# Altium integrated library TI Data Converters Analog to Digital Converter.IntLib: 2197 symbols (part 45 of 168)
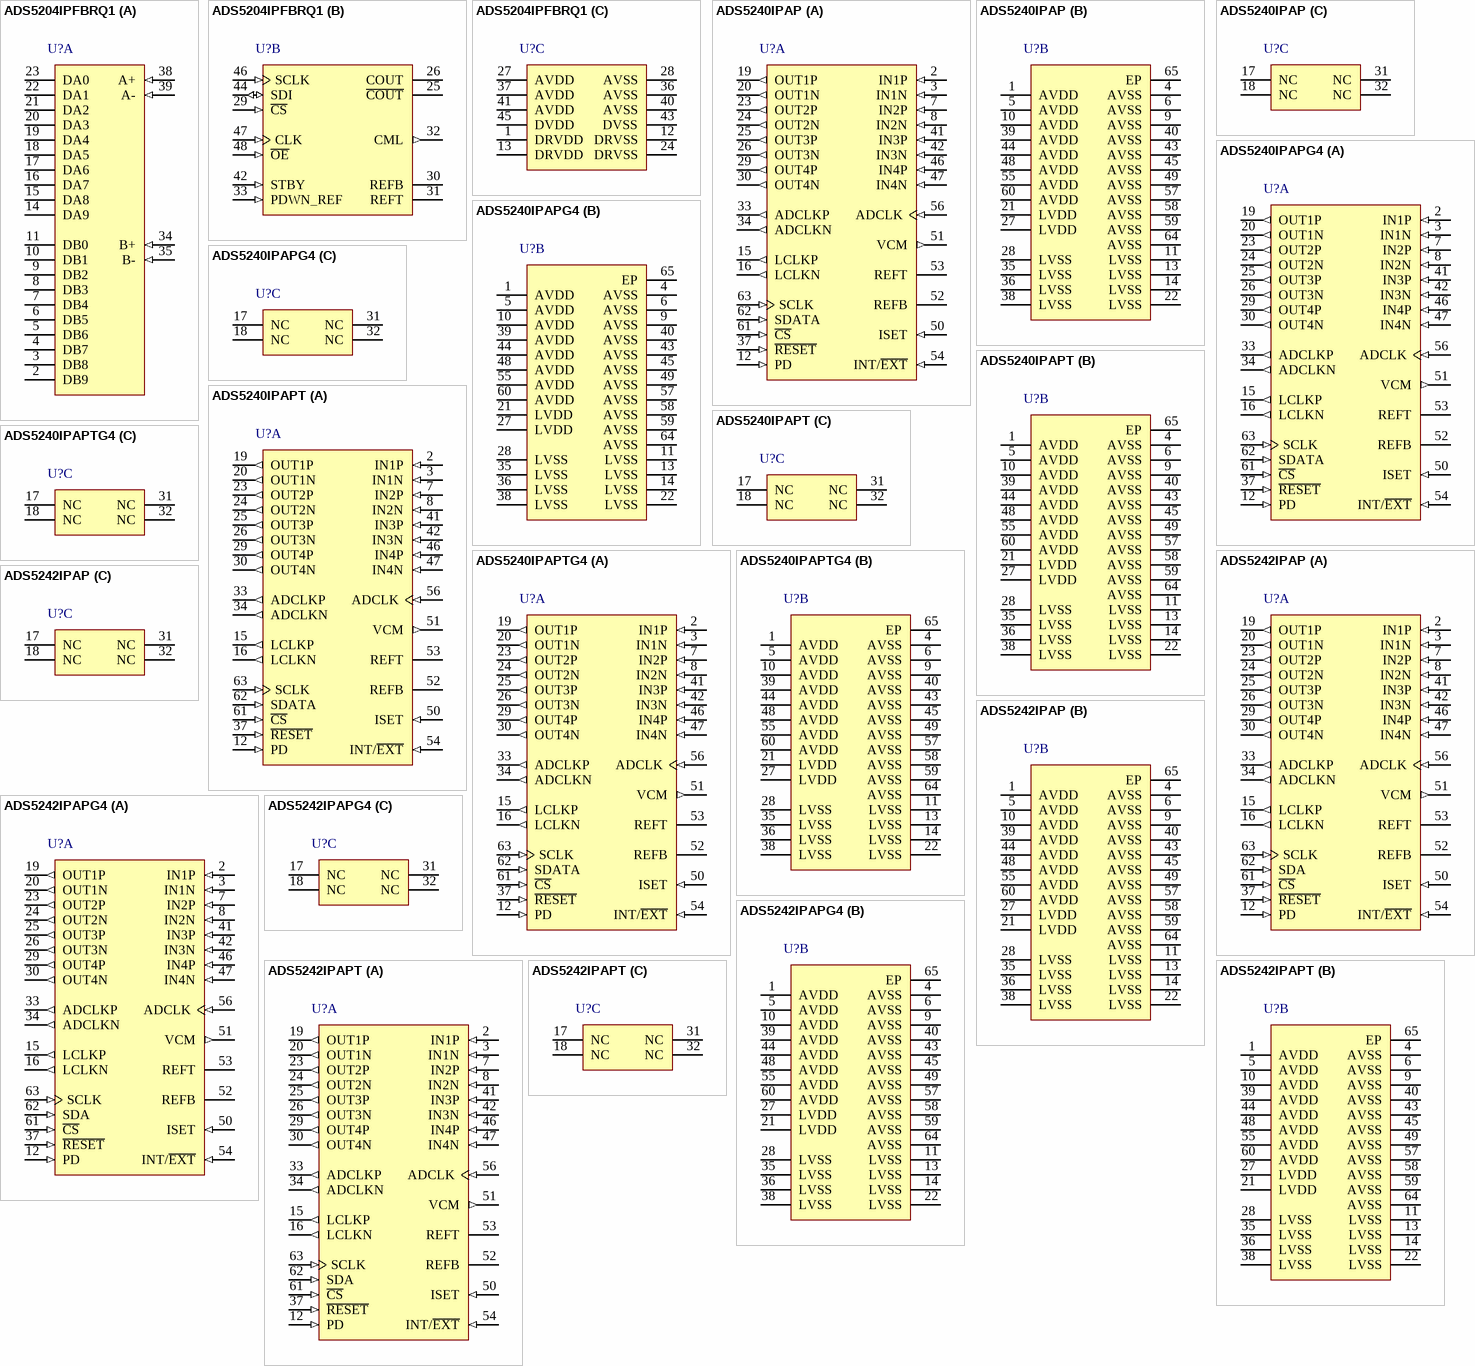
[diagram p170: symbols ADS5204IPFBRQ1 to ADS5242IPAPT]

## ADS5242IPAP
designator U?
4-Channel, 12-Bit, 65 MSPS ADC with Serial LVDS Interface, -40 to 85 degC, 64-pin QFP (PAP64), Green (RoHS & no Sb/Br); Manufacturer: Texas Instruments; PartNumber: ADS5242IPAP; # Input Channels: 4; Analog Voltage AV/DD(Max)(V): 3.6; Analog Voltage AV/DD(Min)(V): 3; Architecture: Pipeline; ENOB(Bits): 11.5; INL(Max)(+/-LSB): 2.5; Interface: Parallel LVDS; Resolution(Bits): 12; Sample Rate (max)(SPS): 65M; SFDR(dB): 88; SINAD(dB): 70.9; SNR(dB): 71.1; SubFamily: High Speed ADC (>10MSPS); DatasheetVersion: SBAS330C; PackageVersion: 4147702/C, 08/2003; PackageReference: PAP64-5900X5900TP; PackageDescription: 64-Pin PowerPAD(TM) Plastic Quad Flatpack, Body 10 x 10 mm, Pitch 0.5 mm; Supplier 1: Digi-Key; Supplier Part Number 1: ADS8322Y/2KG4-ND; Supplier 2: Mouser; Supplier Part Number 2: 595-ADS8322Y/2KG4; Digital Supply(Max)(V): 3.6; Digital Supply(Min)(V): 3; Eco-Plan: Green (RoHS & no Sb/Br); Mounting Technology: Surface Mount; Code_JEDEC: MS-026; ComponentLink1Description: Manufacturer URL; ComponentLink1URL: http://www.ti.com/; ComponentLink2Description: Datasheet; ComponentLink2URL: http://www.ti.com/general/docs/lit/getliterature.tsp?genericPartNumber=ADS5242&fileType=pdf; ComponentLink3Description: Package Specification; ComponentLink3URL: http://www.ti.com/lit/ml/mpqf071b/mpqf071b.pdf
footprint TI-PAP64-5900X5900TP_N (QFP, 64-Leads, Body 10x10mm, Pitch 0.5mm, Thermal Pad 6.5x6.5mm, IPC Medium Density)
footprint TI-PAP64-5900X5900TP_L (QFP, 64-Leads, Body 10x10mm, Pitch 0.5mm, Thermal Pad 6.5x6.5mm, IPC High Density)
footprint TI-PAP64-5900X5900TP_M (QFP, 64-Leads, Body 10x10mm, Pitch 0.5mm, Thermal Pad 6.5x6.5mm, IPC Low Density)
part A pins: 2 IN1P (in) "Channel 1 Differential Analog Input High", 3 IN1N (in) "Channel 1 Differential Analog Input Low", 7 IN2P (in) "Channel 2 Differential Analog Input High", 8 IN2N (in) "Channel 2 Differential Analog Input Low", 12 PD (in) "Power-Down; 0 = Normal, 1 = Power-Down. Weak pull-down to ground.", 15 LCLKP (out) "Positive LVDS Clock", 16 LCLKN (out) "Negative LVDS Clock", 19 OUT1P (out) "Channel 1 Positive LVDS Data Output", 20 OUT1N (out) "Channel 1 Negative LVDS Data Output", 23 OUT2P (out) "Channel 2 Positive LVDS Data Output", 24 OUT2N (out) "Channel 2 Negative LVDS Data Output", 25 OUT3P (out) "Channel 3 Positive LVDS Data Output", 26 OUT3N (out) "Channel 3 Negative LVDS Data Output", 29 OUT4P (out) "Channel 4 Positive LVDS Data Output", 30 OUT4N (out) "Channel 4 Negative LVDS Data Output", 33 ADCLKP (out) "Positive LVDS ADC Clock Output", 34 ADCLKN (out) "Negative LVDS ADC Clock Output", 37 ~{RESET} (in) "Reset to Default; 0 = Reset, 1 = Normal. Weak pull-down to ground.", 41 IN3P (in) "Channel 3 Differential Analog Input High", 42 IN3N (in) "Channel 3 Differential Analog Input Low", 46 IN4P (in) "Channel 4 Differential Analog Input High", 47 IN4N (in) "Channel 4 Differential Analog Input Low", 50 ISET (in) "Bias Current Setting Resistor of 56.2kOhm to Ground", 51 VCM (out) "Common-Mode Output Voltage", 52 REFB "Reference Bottom Voltage (2Ohm resistor in series with a capacitor >= 0.1uF to ground)", 53 REFT "Reference Top Voltage (2Ohm resistor in series with a capacitor >= 0.1uF to ground)", 54 INT/~{EXT} (in) "Internal/External Reference Select; 0 = External, 1 = Internal. Weak pull-up to supply.", 56 ADCLK (in) "Data Converter Clock Input", 61 ~{CS} (in) "Chip Select; 0 = Select, 1 = No Select", 62 SDA (in) "Serial Data Input", 63 SCLK (in) "Serial Data Clock"
part B pins: 1 AVDD (power) "Analog Power Supply", 4 AVSS (power) "Analog Ground", 5 AVDD (power) "Analog Power Supply", 6 AVSS (power) "Analog Ground", 9 AVSS (power) "Analog Ground", 10 AVDD (power) "Analog Power Supply", 11 LVSS (power) "LVDS Ground", 13 LVSS (power) "LVDS Ground", 14 LVSS (power) "LVDS Ground", 21 LVDD (power) "LVDS Power Supply", 22 LVSS (power) "LVDS Ground", 27 LVDD (power) "LVDS Power Supply", 28 LVSS (power) "LVDS Ground", 35 LVSS (power) "LVDS Ground", 36 LVSS (power) "LVDS Ground", 38 LVSS (power) "LVDS Ground", 39 AVDD (power) "Analog Power Supply", 40 AVSS (power) "Analog Ground", 43 AVSS (power) "Analog Ground", 44 AVDD (power) "Analog Power Supply", 45 AVSS (power) "Analog Ground", 48 AVDD (power) "Analog Power Supply", 49 AVSS (power) "Analog Ground", 55 AVDD (power) "Analog Power Supply", 57 AVSS (power) "Analog Ground", 58 AVSS (power) "Analog Ground", 59 AVSS (power) "Analog Ground", 60 AVDD (power) "Analog Power Supply", 64 AVSS (power) "Analog Ground", 65 EP
part C pins: 17 NC "No Connection", 18 NC "No Connection", 31 NC "No Connection", 32 NC "No Connection"

## ADS5242IPAPG4
designator U?
4-Channel, 12-Bit, 65 MSPS ADC with Serial LVDS Interface, -40 to 85 degC, 64-pin QFP (PAP64), Green (RoHS & no Sb/Br); Manufacturer: Texas Instruments; PartNumber: ADS5242IPAPG4; # Input Channels: 4; Analog Voltage AV/DD(Max)(V): 3.6; Analog Voltage AV/DD(Min)(V): 3; Architecture: Pipeline; ENOB(Bits): 11.5; INL(Max)(+/-LSB): 2.5; Interface: Parallel LVDS; Resolution(Bits): 12; Sample Rate (max)(SPS): 65M; SFDR(dB): 88; SINAD(dB): 70.9; SNR(dB): 71.1; SubFamily: High Speed ADC (>10MSPS); DatasheetVersion: SBAS330C; PackageVersion: 4147702/C, 08/2003; PackageReference: PAP64-5900X5900TP; PackageDescription: 64-Pin PowerPAD(TM) Plastic Quad Flatpack, Body 10 x 10 mm, Pitch 0.5 mm; Supplier 1: Digi-Key; Supplier Part Number 1: 296-13772-2-ND; Supplier 2: Digi-Key; Supplier Part Number 2: 296-13772-1-ND; Supplier 3: Digi-Key; Supplier Part Number 3: 296-13772-6-ND; Supplier 4: Mouser; Supplier Part Number 4: 595-ADS8322YB/250; Digital Supply(Max)(V): 3.6; Digital Supply(Min)(V): 3; Eco-Plan: Green (RoHS & no Sb/Br); Mounting Technology: Surface Mount; Code_JEDEC: MS-026; ComponentLink1Description: Manufacturer URL; ComponentLink1URL: http://www.ti.com/; ComponentLink2Description: Datasheet; ComponentLink2URL: http://www.ti.com/general/docs/lit/getliterature.tsp?genericPartNumber=ADS5242&fileType=pdf; ComponentLink3Description: Package Specification; ComponentLink3URL: http://www.ti.com/lit/ml/mpqf071b/mpqf071b.pdf
footprint TI-PAP64-5900X5900TP_N (QFP, 64-Leads, Body 10x10mm, Pitch 0.5mm, Thermal Pad 6.5x6.5mm, IPC Medium Density)
footprint TI-PAP64-5900X5900TP_L (QFP, 64-Leads, Body 10x10mm, Pitch 0.5mm, Thermal Pad 6.5x6.5mm, IPC High Density)
footprint TI-PAP64-5900X5900TP_M (QFP, 64-Leads, Body 10x10mm, Pitch 0.5mm, Thermal Pad 6.5x6.5mm, IPC Low Density)
part A pins: 2 IN1P (in) "Channel 1 Differential Analog Input High", 3 IN1N (in) "Channel 1 Differential Analog Input Low", 7 IN2P (in) "Channel 2 Differential Analog Input High", 8 IN2N (in) "Channel 2 Differential Analog Input Low", 12 PD (in) "Power-Down; 0 = Normal, 1 = Power-Down. Weak pull-down to ground.", 15 LCLKP (out) "Positive LVDS Clock", 16 LCLKN (out) "Negative LVDS Clock", 19 OUT1P (out) "Channel 1 Positive LVDS Data Output", 20 OUT1N (out) "Channel 1 Negative LVDS Data Output", 23 OUT2P (out) "Channel 2 Positive LVDS Data Output", 24 OUT2N (out) "Channel 2 Negative LVDS Data Output", 25 OUT3P (out) "Channel 3 Positive LVDS Data Output", 26 OUT3N (out) "Channel 3 Negative LVDS Data Output", 29 OUT4P (out) "Channel 4 Positive LVDS Data Output", 30 OUT4N (out) "Channel 4 Negative LVDS Data Output", 33 ADCLKP (out) "Positive LVDS ADC Clock Output", 34 ADCLKN (out) "Negative LVDS ADC Clock Output", 37 ~{RESET} (in) "Reset to Default; 0 = Reset, 1 = Normal. Weak pull-down to ground.", 41 IN3P (in) "Channel 3 Differential Analog Input High", 42 IN3N (in) "Channel 3 Differential Analog Input Low", 46 IN4P (in) "Channel 4 Differential Analog Input High", 47 IN4N (in) "Channel 4 Differential Analog Input Low", 50 ISET (in) "Bias Current Setting Resistor of 56.2kOhm to Ground", 51 VCM (out) "Common-Mode Output Voltage", 52 REFB "Reference Bottom Voltage (2Ohm resistor in series with a capacitor >= 0.1uF to ground)", 53 REFT "Reference Top Voltage (2Ohm resistor in series with a capacitor >= 0.1uF to ground)", 54 INT/~{EXT} (in) "Internal/External Reference Select; 0 = External, 1 = Internal. Weak pull-up to supply.", 56 ADCLK (in) "Data Converter Clock Input", 61 ~{CS} (in) "Chip Select; 0 = Select, 1 = No Select", 62 SDA (in) "Serial Data Input", 63 SCLK (in) "Serial Data Clock"
part B pins: 1 AVDD (power) "Analog Power Supply", 4 AVSS (power) "Analog Ground", 5 AVDD (power) "Analog Power Supply", 6 AVSS (power) "Analog Ground", 9 AVSS (power) "Analog Ground", 10 AVDD (power) "Analog Power Supply", 11 LVSS (power) "LVDS Ground", 13 LVSS (power) "LVDS Ground", 14 LVSS (power) "LVDS Ground", 21 LVDD (power) "LVDS Power Supply", 22 LVSS (power) "LVDS Ground", 27 LVDD (power) "LVDS Power Supply", 28 LVSS (power) "LVDS Ground", 35 LVSS (power) "LVDS Ground", 36 LVSS (power) "LVDS Ground", 38 LVSS (power) "LVDS Ground", 39 AVDD (power) "Analog Power Supply", 40 AVSS (power) "Analog Ground", 43 AVSS (power) "Analog Ground", 44 AVDD (power) "Analog Power Supply", 45 AVSS (power) "Analog Ground", 48 AVDD (power) "Analog Power Supply", 49 AVSS (power) "Analog Ground", 55 AVDD (power) "Analog Power Supply", 57 AVSS (power) "Analog Ground", 58 AVSS (power) "Analog Ground", 59 AVSS (power) "Analog Ground", 60 AVDD (power) "Analog Power Supply", 64 AVSS (power) "Analog Ground", 65 EP
part C pins: 17 NC "No Connection", 18 NC "No Connection", 31 NC "No Connection", 32 NC "No Connection"

## ADS5242IPAPT
designator U?
4-Channel, 12-Bit, 65 MSPS ADC with Serial LVDS Interface, -40 to 85 degC, 64-pin QFP (PAP64), Green (RoHS & no Sb/Br); Manufacturer: Texas Instruments; PartNumber: ADS5242IPAPT; # Input Channels: 4; Analog Voltage AV/DD(Max)(V): 3.6; Analog Voltage AV/DD(Min)(V): 3; Architecture: Pipeline; ENOB(Bits): 11.5; INL(Max)(+/-LSB): 2.5; Interface: Parallel LVDS; Resolution(Bits): 12; Sample Rate (max)(SPS): 65M; SFDR(dB): 88; SINAD(dB): 70.9; SNR(dB): 71.1; SubFamily: High Speed ADC (>10MSPS); DatasheetVersion: SBAS330C; PackageVersion: 4147702/C, 08/2003; PackageReference: PAP64-5900X5900TP; PackageDescription: 64-Pin PowerPAD(TM) Plastic Quad Flatpack, Body 10 x 10 mm, Pitch 0.5 mm; Supplier 1: Digi-Key; Supplier Part Number 1: ADS8322YB/250G4-ND; Supplier 2: Mouser; Supplier Part Number 2: 595-ADS8322YB/250G4; Digital Supply(Max)(V): 3.6; Digital Supply(Min)(V): 3; Eco-Plan: Green (RoHS & no Sb/Br); Mounting Technology: Surface Mount; Code_JEDEC: MS-026; ComponentLink1Description: Manufacturer URL; ComponentLink1URL: http://www.ti.com/; ComponentLink2Description: Datasheet; ComponentLink2URL: http://www.ti.com/general/docs/lit/getliterature.tsp?genericPartNumber=ADS5242&fileType=pdf; ComponentLink3Description: Package Specification; ComponentLink3URL: http://www.ti.com/lit/ml/mpqf071b/mpqf071b.pdf
footprint TI-PAP64-5900X5900TP_N (QFP, 64-Leads, Body 10x10mm, Pitch 0.5mm, Thermal Pad 6.5x6.5mm, IPC Medium Density)
footprint TI-PAP64-5900X5900TP_L (QFP, 64-Leads, Body 10x10mm, Pitch 0.5mm, Thermal Pad 6.5x6.5mm, IPC High Density)
footprint TI-PAP64-5900X5900TP_M (QFP, 64-Leads, Body 10x10mm, Pitch 0.5mm, Thermal Pad 6.5x6.5mm, IPC Low Density)
part A pins: 2 IN1P (in) "Channel 1 Differential Analog Input High", 3 IN1N (in) "Channel 1 Differential Analog Input Low", 7 IN2P (in) "Channel 2 Differential Analog Input High", 8 IN2N (in) "Channel 2 Differential Analog Input Low", 12 PD (in) "Power-Down; 0 = Normal, 1 = Power-Down. Weak pull-down to ground.", 15 LCLKP (out) "Positive LVDS Clock", 16 LCLKN (out) "Negative LVDS Clock", 19 OUT1P (out) "Channel 1 Positive LVDS Data Output", 20 OUT1N (out) "Channel 1 Negative LVDS Data Output", 23 OUT2P (out) "Channel 2 Positive LVDS Data Output", 24 OUT2N (out) "Channel 2 Negative LVDS Data Output", 25 OUT3P (out) "Channel 3 Positive LVDS Data Output", 26 OUT3N (out) "Channel 3 Negative LVDS Data Output", 29 OUT4P (out) "Channel 4 Positive LVDS Data Output", 30 OUT4N (out) "Channel 4 Negative LVDS Data Output", 33 ADCLKP (out) "Positive LVDS ADC Clock Output", 34 ADCLKN (out) "Negative LVDS ADC Clock Output", 37 ~{RESET} (in) "Reset to Default; 0 = Reset, 1 = Normal. Weak pull-down to ground.", 41 IN3P (in) "Channel 3 Differential Analog Input High", 42 IN3N (in) "Channel 3 Differential Analog Input Low", 46 IN4P (in) "Channel 4 Differential Analog Input High", 47 IN4N (in) "Channel 4 Differential Analog Input Low", 50 ISET (in) "Bias Current Setting Resistor of 56.2kOhm to Ground", 51 VCM (out) "Common-Mode Output Voltage", 52 REFB "Reference Bottom Voltage (2Ohm resistor in series with a capacitor >= 0.1uF to ground)", 53 REFT "Reference Top Voltage (2Ohm resistor in series with a capacitor >= 0.1uF to ground)", 54 INT/~{EXT} (in) "Internal/External Reference Select; 0 = External, 1 = Internal. Weak pull-up to supply.", 56 ADCLK (in) "Data Converter Clock Input", 61 ~{CS} (in) "Chip Select; 0 = Select, 1 = No Select", 62 SDA (in) "Serial Data Input", 63 SCLK (in) "Serial Data Clock"
part B pins: 1 AVDD (power) "Analog Power Supply", 4 AVSS (power) "Analog Ground", 5 AVDD (power) "Analog Power Supply", 6 AVSS (power) "Analog Ground", 9 AVSS (power) "Analog Ground", 10 AVDD (power) "Analog Power Supply", 11 LVSS (power) "LVDS Ground", 13 LVSS (power) "LVDS Ground", 14 LVSS (power) "LVDS Ground", 21 LVDD (power) "LVDS Power Supply", 22 LVSS (power) "LVDS Ground", 27 LVDD (power) "LVDS Power Supply", 28 LVSS (power) "LVDS Ground", 35 LVSS (power) "LVDS Ground", 36 LVSS (power) "LVDS Ground", 38 LVSS (power) "LVDS Ground", 39 AVDD (power) "Analog Power Supply", 40 AVSS (power) "Analog Ground", 43 AVSS (power) "Analog Ground", 44 AVDD (power) "Analog Power Supply", 45 AVSS (power) "Analog Ground", 48 AVDD (power) "Analog Power Supply", 49 AVSS (power) "Analog Ground", 55 AVDD (power) "Analog Power Supply", 57 AVSS (power) "Analog Ground", 58 AVSS (power) "Analog Ground", 59 AVSS (power) "Analog Ground", 60 AVDD (power) "Analog Power Supply", 64 AVSS (power) "Analog Ground", 65 EP
part C pins: 17 NC "No Connection", 18 NC "No Connection", 31 NC "No Connection", 32 NC "No Connection"

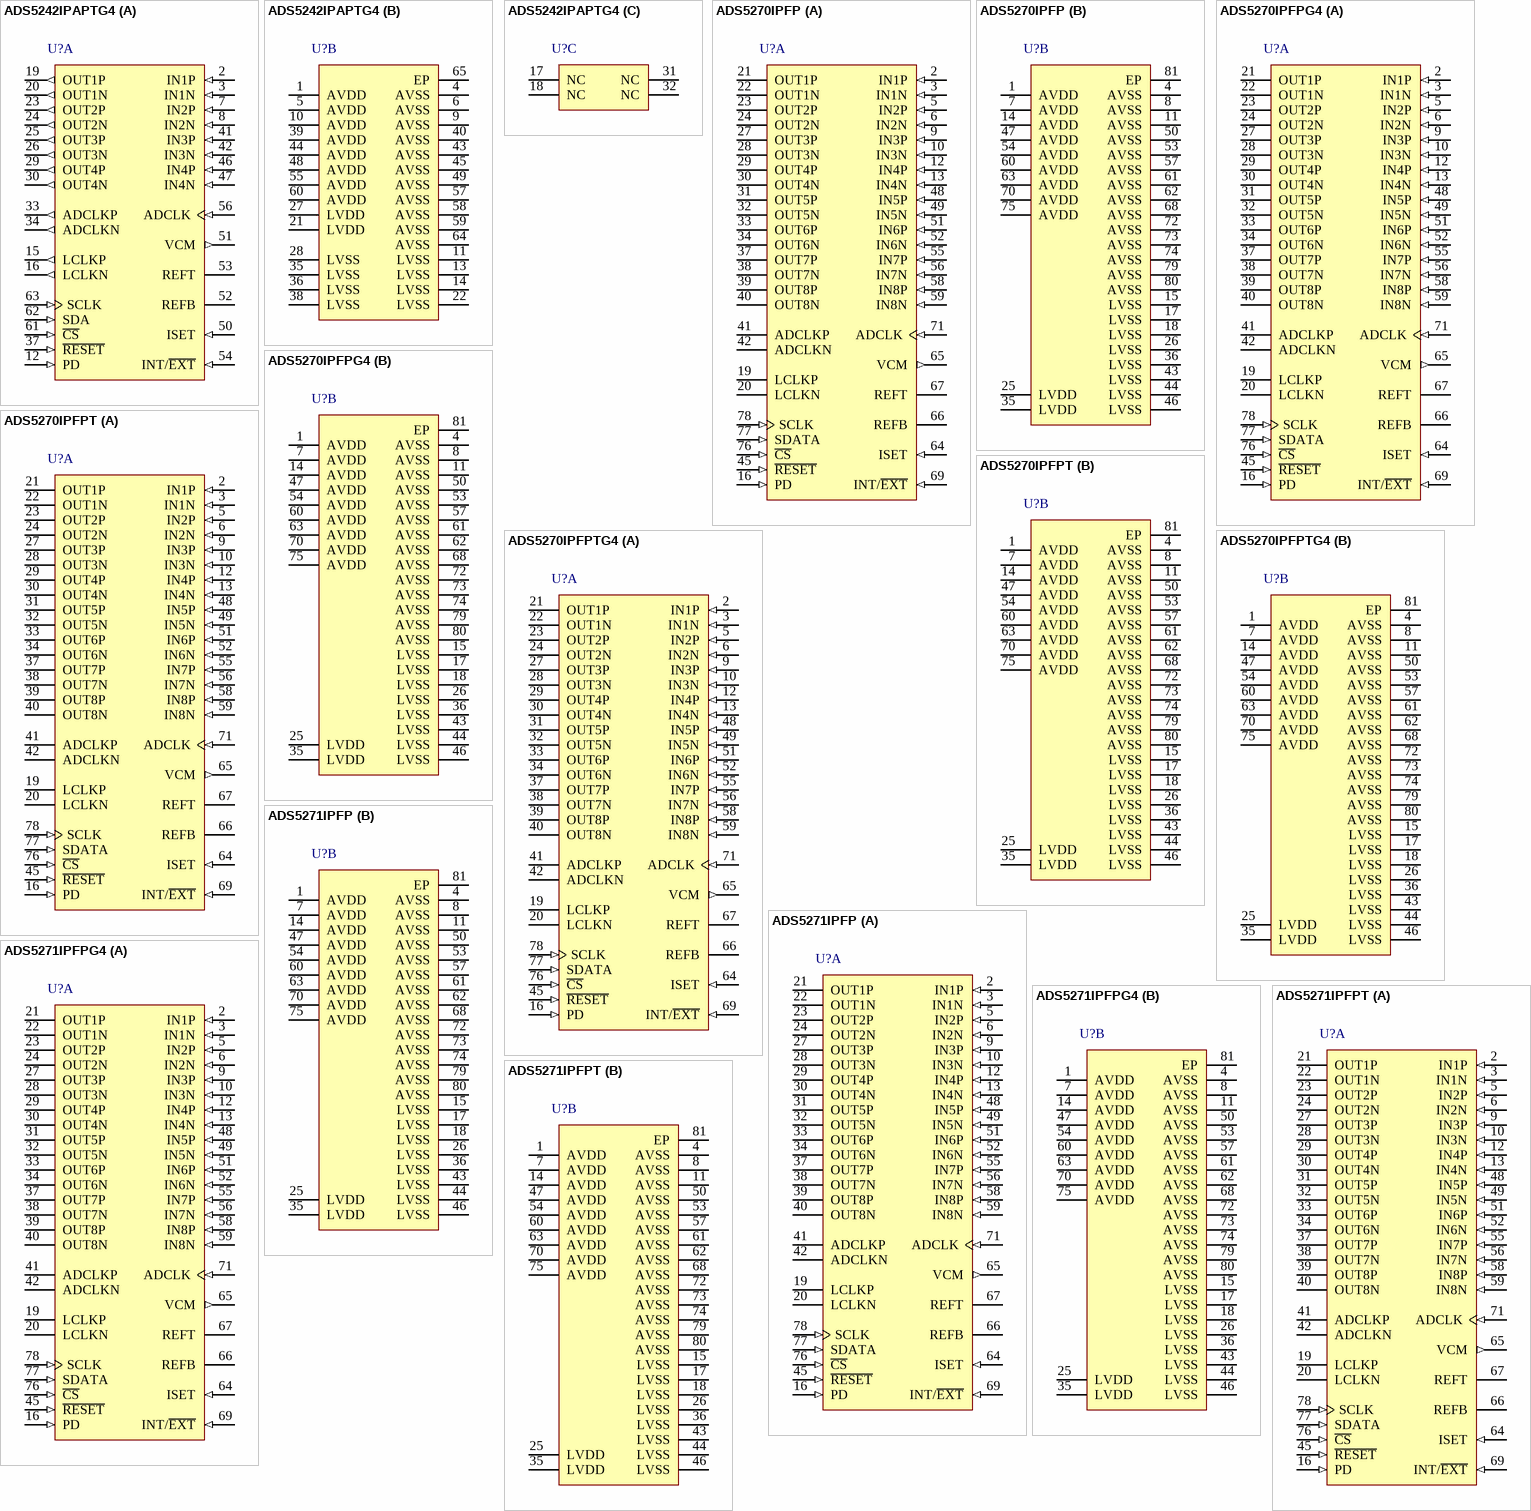
[diagram p41: symbols ADS5242IPAPTG4 to ADS5271IPFPT]

## ADS5242IPAPTG4
designator U?
4-Channel, 12-Bit, 65 MSPS ADC with Serial LVDS Interface, -40 to 85 degC, 64-pin QFP (PAP64), Green (RoHS & no Sb/Br); Manufacturer: Texas Instruments; PartNumber: ADS5242IPAPTG4; # Input Channels: 4; Analog Voltage AV/DD(Max)(V): 3.6; Analog Voltage AV/DD(Min)(V): 3; Architecture: Pipeline; ENOB(Bits): 11.5; INL(Max)(+/-LSB): 2.5; Interface: Parallel LVDS; Resolution(Bits): 12; Sample Rate (max)(SPS): 65M; SFDR(dB): 88; SINAD(dB): 70.9; SNR(dB): 71.1; SubFamily: High Speed ADC (>10MSPS); DatasheetVersion: SBAS330C; PackageVersion: 4147702/C, 08/2003; PackageReference: PAP64-5900X5900TP; PackageDescription: 64-Pin PowerPAD(TM) Plastic Quad Flatpack, Body 10 x 10 mm, Pitch 0.5 mm; Supplier 1: Digi-Key; Supplier Part Number 1: THS1207CDA-ND; Supplier 2: Mouser; Supplier Part Number 2: 595-THS1207CDA; Digital Supply(Max)(V): 3.6; Digital Supply(Min)(V): 3; Eco-Plan: Green (RoHS & no Sb/Br); Mounting Technology: Surface Mount; Code_JEDEC: MS-026; ComponentLink1Description: Manufacturer URL; ComponentLink1URL: http://www.ti.com/; ComponentLink2Description: Datasheet; ComponentLink2URL: http://www.ti.com/general/docs/lit/getliterature.tsp?genericPartNumber=ADS5242&fileType=pdf; ComponentLink3Description: Package Specification; ComponentLink3URL: http://www.ti.com/lit/ml/mpqf071b/mpqf071b.pdf
footprint TI-PAP64-5900X5900TP_N (QFP, 64-Leads, Body 10x10mm, Pitch 0.5mm, Thermal Pad 6.5x6.5mm, IPC Medium Density)
footprint TI-PAP64-5900X5900TP_L (QFP, 64-Leads, Body 10x10mm, Pitch 0.5mm, Thermal Pad 6.5x6.5mm, IPC High Density)
footprint TI-PAP64-5900X5900TP_M (QFP, 64-Leads, Body 10x10mm, Pitch 0.5mm, Thermal Pad 6.5x6.5mm, IPC Low Density)
part A pins: 2 IN1P (in) "Channel 1 Differential Analog Input High", 3 IN1N (in) "Channel 1 Differential Analog Input Low", 7 IN2P (in) "Channel 2 Differential Analog Input High", 8 IN2N (in) "Channel 2 Differential Analog Input Low", 12 PD (in) "Power-Down; 0 = Normal, 1 = Power-Down. Weak pull-down to ground.", 15 LCLKP (out) "Positive LVDS Clock", 16 LCLKN (out) "Negative LVDS Clock", 19 OUT1P (out) "Channel 1 Positive LVDS Data Output", 20 OUT1N (out) "Channel 1 Negative LVDS Data Output", 23 OUT2P (out) "Channel 2 Positive LVDS Data Output", 24 OUT2N (out) "Channel 2 Negative LVDS Data Output", 25 OUT3P (out) "Channel 3 Positive LVDS Data Output", 26 OUT3N (out) "Channel 3 Negative LVDS Data Output", 29 OUT4P (out) "Channel 4 Positive LVDS Data Output", 30 OUT4N (out) "Channel 4 Negative LVDS Data Output", 33 ADCLKP (out) "Positive LVDS ADC Clock Output", 34 ADCLKN (out) "Negative LVDS ADC Clock Output", 37 ~{RESET} (in) "Reset to Default; 0 = Reset, 1 = Normal. Weak pull-down to ground.", 41 IN3P (in) "Channel 3 Differential Analog Input High", 42 IN3N (in) "Channel 3 Differential Analog Input Low", 46 IN4P (in) "Channel 4 Differential Analog Input High", 47 IN4N (in) "Channel 4 Differential Analog Input Low", 50 ISET (in) "Bias Current Setting Resistor of 56.2kOhm to Ground", 51 VCM (out) "Common-Mode Output Voltage", 52 REFB "Reference Bottom Voltage (2Ohm resistor in series with a capacitor >= 0.1uF to ground)", 53 REFT "Reference Top Voltage (2Ohm resistor in series with a capacitor >= 0.1uF to ground)", 54 INT/~{EXT} (in) "Internal/External Reference Select; 0 = External, 1 = Internal. Weak pull-up to supply.", 56 ADCLK (in) "Data Converter Clock Input", 61 ~{CS} (in) "Chip Select; 0 = Select, 1 = No Select", 62 SDA (in) "Serial Data Input", 63 SCLK (in) "Serial Data Clock"
part B pins: 1 AVDD (power) "Analog Power Supply", 4 AVSS (power) "Analog Ground", 5 AVDD (power) "Analog Power Supply", 6 AVSS (power) "Analog Ground", 9 AVSS (power) "Analog Ground", 10 AVDD (power) "Analog Power Supply", 11 LVSS (power) "LVDS Ground", 13 LVSS (power) "LVDS Ground", 14 LVSS (power) "LVDS Ground", 21 LVDD (power) "LVDS Power Supply", 22 LVSS (power) "LVDS Ground", 27 LVDD (power) "LVDS Power Supply", 28 LVSS (power) "LVDS Ground", 35 LVSS (power) "LVDS Ground", 36 LVSS (power) "LVDS Ground", 38 LVSS (power) "LVDS Ground", 39 AVDD (power) "Analog Power Supply", 40 AVSS (power) "Analog Ground", 43 AVSS (power) "Analog Ground", 44 AVDD (power) "Analog Power Supply", 45 AVSS (power) "Analog Ground", 48 AVDD (power) "Analog Power Supply", 49 AVSS (power) "Analog Ground", 55 AVDD (power) "Analog Power Supply", 57 AVSS (power) "Analog Ground", 58 AVSS (power) "Analog Ground", 59 AVSS (power) "Analog Ground", 60 AVDD (power) "Analog Power Supply", 64 AVSS (power) "Analog Ground", 65 EP
part C pins: 17 NC "No Connection", 18 NC "No Connection", 31 NC "No Connection", 32 NC "No Connection"

## ADS5270IPFP
designator U?
8-Channel ADC, -40 to 85 degC, 80-pin QFP (PFP80), Green (RoHS & no Sb/Br); Manufacturer: Texas Instruments; PartNumber: ADS5270IPFP; # Input Channels: 8; Analog Voltage AV/DD(Max)(V): 3.6; Analog Voltage AV/DD(Min)(V): 3; Architecture: Pipeline; ENOB(Bits): 11.3; INL(Max)(+/-LSB): 2; Interface: Parallel LVDS; Resolution(Bits): 12; Sample Rate (max)(SPS): 40M; SFDR(dB): 89; SINAD(dB): 70; SNR(dB): 70.5; SubFamily: High Speed ADC (>10MSPS); DatasheetVersion: SBAS293F; PackageVersion: 4146925/C, 07/2011; PackageReference: PFP80-5445X5445TP; PackageDescription: 80-Pin PowerPAD(TM) Plastic Quad Flatpack, Body 12 x 12 mm, Pitch 0.5 mm; Supplier 1: Digi-Key; Supplier Part Number 1: THS1207CDAG4-ND; Supplier 2: Mouser; Supplier Part Number 2: 595-THS1207CDAG4; Digital Supply(Max)(V): 3.6; Digital Supply(Min)(V): 3; Eco-Plan: Green (RoHS & no Sb/Br); Mounting Technology: Surface Mount; Code_JEDEC: MS-026; ComponentLink1Description: Manufacturer URL; ComponentLink1URL: http://www.ti.com/; ComponentLink2Description: Datasheet; ComponentLink2URL: http://www.ti.com/general/docs/lit/getliterature.tsp?genericPartNumber=ADS5270&fileType=pdf; ComponentLink3Description: Package Specification; ComponentLink3URL: http://www.ti.com/litv/pdf/mpqf049b
footprint TI-PFP80-5445X5445TP_N (QFP, 80-Leads, Body 12x12mm, Pitch 0.5mm, Thermal Pad 6.2x6.2mm, IPC Medium Density)
footprint TI-PFP80-5445X5445TP_L (QFP, 80-Leads, Body 12x12mm, Pitch 0.5mm, Thermal Pad 6.2x6.2mm, IPC High Density)
footprint TI-PFP80-5445X5445TP_M (QFP, 80-Leads, Body 12x12mm, Pitch 0.5mm, Thermal Pad 6.2x6.2mm, IPC Low Density)
part A pins: 2 IN1P (in) "Channel 1 Differential Analog Input High", 3 IN1N (in) "Channel 1 Differential Analog Input Low", 5 IN2P (in) "Channel 2 Differential Analog Input High", 6 IN2N (in) "Channel 2 Differential Analog Input Low", 9 IN3P (in) "Channel 3 Differential Analog Input High", 10 IN3N (in) "Channel 3 Differential Analog Input Low", 12 IN4P (in) "Channel 4 Differential Analog Input High", 13 IN4N (in) "Channel 4 Differential Analog Input Low", 16 PD (in) "Power-Down; 0 = Normal, 1 = Power-Down. Weak pull-down to ground.", 19 LCLKP (hiz) "Positive LVDS Clock", 20 LCLKN (hiz) "Negative LVDS Clock", 21 OUT1P (hiz) "Channel 1 Positive LVDS Data Output", 22 OUT1N (hiz) "Channel 1 Negative LVDS Data Output", 23 OUT2P (hiz) "Channel 2 Positive LVDS Data Output", 24 OUT2N (hiz) "Channel 2 Negative LVDS Data Output", 27 OUT3P (hiz) "Channel 3 Positive LVDS Data Output", 28 OUT3N (hiz) "Channel 3 Negative LVDS Data Output", 29 OUT4P (hiz) "Channel 4 Positive LVDS Data Output", 30 OUT4N (hiz) "Channel 4 Negative LVDS Data Output", 31 OUT5P (hiz) "Channel 5 Positive LVDS Data Output", 32 OUT5N (hiz) "Channel 5 Negative LVDS Data Output", 33 OUT6P (hiz) "Channel 6 Positive LVDS Data Output", 34 OUT6N (hiz) "Channel 6 Negative LVDS Data Output", 37 OUT7P (hiz) "Channel 7 Positive LVDS Data Output", 38 OUT7N (hiz) "Channel 7 Negative LVDS Data Output", 39 OUT8P (hiz) "Channel 8 Positive LVDS Data Output", 40 OUT8N (hiz) "Channel 8 Negative LVDS Data Output", 41 ADCLKP (hiz) "Positive LVDS ADC Clock Output", 42 ADCLKN (hiz) "Negative LVDS ADC Clock Output", 45 ~{RESET} (in) "Reset to Default; 0 = Reset, 1 = Normal. Weak pull-down to ground.", 48 IN5P (in) "Channel 5 Differential Analog Input High", 49 IN5N (in) "Channel 5 Differential Analog Input Low", 51 IN6P (in) "Channel 6 Differential Analog Input High", 52 IN6N (in) "Channel 6 Differential Analog Input Low", 55 IN7P (in) "Channel 7 Differential Analog Input High", 56 IN7N (in) "Channel 7 Differential Analog Input Low", 58 IN8P (in) "Channel 8 Differential Analog Input High", 59 IN8N (in) "Channel 8 Differential Analog Input Low", 64 ISET (in) "Bias Current Setting Resistor of 56.2kohm to Ground", 65 VCM (out) "Common-Mode Output Voltage", 66 REFB "Reference Bottom Voltage (2ohm resistor in series with a capacitor >= 0.1uF capacitor to ground)", 67 REFT "Reference Top Voltage (2ohm resistor in series with a capacitor >= 0.1uF capacitor to ground)", 69 INT/~{EXT} (in) "Internal/External Reference Select; 0 = External, 1 = Internal. Weak pull-up to supply.", 71 ADCLK (in) "Data Converter Clock Input", 76 ~{CS} (in) "Chip Select; 0 = Select, 1 = No Select", 77 SDATA (in) "Serial Data input", 78 SCLK (in) "Serial Data Clock"
part B pins: 1 AVDD (power) "Analog Power Supply", 4 AVSS (power) "Analog Ground", 7 AVDD (power) "Analog Power Supply", 8 AVSS (power) "Analog Ground", 11 AVSS (power) "Analog Ground", 14 AVDD (power) "Analog Power Supply", 15 LVSS (power) "LVDS Ground", 17 LVSS (power) "LVDS Ground", 18 LVSS (power) "LVDS Ground", 25 LVDD (power) "LVDS Power Supply", 26 LVSS (power) "LVDS Ground", 35 LVDD (power) "LVDS Power Supply", 36 LVSS (power) "LVDS Ground", 43 LVSS (power) "LVDS Ground", 44 LVSS (power) "LVDS Ground", 46 LVSS (power) "LVDS Ground", 47 AVDD (power) "Analog Power Supply", 50 AVSS (power) "Analog Ground", 53 AVSS (power) "Analog Ground", 54 AVDD (power) "Analog Power Supply", 57 AVSS (power) "Analog Ground", 60 AVDD (power) "Analog Power Supply", 61 AVSS (power) "Analog Ground", 62 AVSS (power) "Analog Ground", 63 AVDD (power) "Analog Power Supply", 68 AVSS (power) "Analog Ground", 70 AVDD (power) "Analog Power Supply", 72 AVSS (power) "Analog Ground", 73 AVSS (power) "Analog Ground", 74 AVSS (power) "Analog Ground", 75 AVDD (power) "Analog Power Supply", 79 AVSS (power) "Analog Ground", 80 AVSS (power) "Analog Ground", 81 EP

## ADS5270IPFPG4
designator U?
8-Channel ADC, -40 to 85 degC, 80-pin QFP (PFP80), Green (RoHS & no Sb/Br); Manufacturer: Texas Instruments; PartNumber: ADS5270IPFPG4; # Input Channels: 8; Analog Voltage AV/DD(Max)(V): 3.6; Analog Voltage AV/DD(Min)(V): 3; Architecture: Pipeline; ENOB(Bits): 11.3; INL(Max)(+/-LSB): 2; Interface: Parallel LVDS; Resolution(Bits): 12; Sample Rate (max)(SPS): 40M; SFDR(dB): 89; SINAD(dB): 70; SNR(dB): 70.5; SubFamily: High Speed ADC (>10MSPS); DatasheetVersion: SBAS293F; PackageVersion: 4146925/C, 07/2011; PackageReference: PFP80-5445X5445TP; PackageDescription: 80-Pin PowerPAD(TM) Plastic Quad Flatpack, Body 12 x 12 mm, Pitch 0.5 mm; Supplier 1: Digi-Key; Supplier Part Number 1: 296-2834-5-ND; Supplier 2: Newark; Supplier Part Number 2: 76C6188; Supplier 3: Mouser; Supplier Part Number 3: 595-THS1207IDA; Digital Supply(Max)(V): 3.6; Digital Supply(Min)(V): 3; Eco-Plan: Green (RoHS & no Sb/Br); Mounting Technology: Surface Mount; Code_JEDEC: MS-026; ComponentLink1Description: Manufacturer URL; ComponentLink1URL: http://www.ti.com/; ComponentLink2Description: Datasheet; ComponentLink2URL: http://www.ti.com/general/docs/lit/getliterature.tsp?genericPartNumber=ADS5270&fileType=pdf; ComponentLink3Description: Package Specification; ComponentLink3URL: http://www.ti.com/litv/pdf/mpqf049b
footprint TI-PFP80-5445X5445TP_N (QFP, 80-Leads, Body 12x12mm, Pitch 0.5mm, Thermal Pad 6.2x6.2mm, IPC Medium Density)
footprint TI-PFP80-5445X5445TP_L (QFP, 80-Leads, Body 12x12mm, Pitch 0.5mm, Thermal Pad 6.2x6.2mm, IPC High Density)
footprint TI-PFP80-5445X5445TP_M (QFP, 80-Leads, Body 12x12mm, Pitch 0.5mm, Thermal Pad 6.2x6.2mm, IPC Low Density)
part A pins: 2 IN1P (in) "Channel 1 Differential Analog Input High", 3 IN1N (in) "Channel 1 Differential Analog Input Low", 5 IN2P (in) "Channel 2 Differential Analog Input High", 6 IN2N (in) "Channel 2 Differential Analog Input Low", 9 IN3P (in) "Channel 3 Differential Analog Input High", 10 IN3N (in) "Channel 3 Differential Analog Input Low", 12 IN4P (in) "Channel 4 Differential Analog Input High", 13 IN4N (in) "Channel 4 Differential Analog Input Low", 16 PD (in) "Power-Down; 0 = Normal, 1 = Power-Down. Weak pull-down to ground.", 19 LCLKP (hiz) "Positive LVDS Clock", 20 LCLKN (hiz) "Negative LVDS Clock", 21 OUT1P (hiz) "Channel 1 Positive LVDS Data Output", 22 OUT1N (hiz) "Channel 1 Negative LVDS Data Output", 23 OUT2P (hiz) "Channel 2 Positive LVDS Data Output", 24 OUT2N (hiz) "Channel 2 Negative LVDS Data Output", 27 OUT3P (hiz) "Channel 3 Positive LVDS Data Output", 28 OUT3N (hiz) "Channel 3 Negative LVDS Data Output", 29 OUT4P (hiz) "Channel 4 Positive LVDS Data Output", 30 OUT4N (hiz) "Channel 4 Negative LVDS Data Output", 31 OUT5P (hiz) "Channel 5 Positive LVDS Data Output", 32 OUT5N (hiz) "Channel 5 Negative LVDS Data Output", 33 OUT6P (hiz) "Channel 6 Positive LVDS Data Output", 34 OUT6N (hiz) "Channel 6 Negative LVDS Data Output", 37 OUT7P (hiz) "Channel 7 Positive LVDS Data Output", 38 OUT7N (hiz) "Channel 7 Negative LVDS Data Output", 39 OUT8P (hiz) "Channel 8 Positive LVDS Data Output", 40 OUT8N (hiz) "Channel 8 Negative LVDS Data Output", 41 ADCLKP (hiz) "Positive LVDS ADC Clock Output", 42 ADCLKN (hiz) "Negative LVDS ADC Clock Output", 45 ~{RESET} (in) "Reset to Default; 0 = Reset, 1 = Normal. Weak pull-down to ground.", 48 IN5P (in) "Channel 5 Differential Analog Input High", 49 IN5N (in) "Channel 5 Differential Analog Input Low", 51 IN6P (in) "Channel 6 Differential Analog Input High", 52 IN6N (in) "Channel 6 Differential Analog Input Low", 55 IN7P (in) "Channel 7 Differential Analog Input High", 56 IN7N (in) "Channel 7 Differential Analog Input Low", 58 IN8P (in) "Channel 8 Differential Analog Input High", 59 IN8N (in) "Channel 8 Differential Analog Input Low", 64 ISET (in) "Bias Current Setting Resistor of 56.2kohm to Ground", 65 VCM (out) "Common-Mode Output Voltage", 66 REFB "Reference Bottom Voltage (2ohm resistor in series with a capacitor >= 0.1uF capacitor to ground)", 67 REFT "Reference Top Voltage (2ohm resistor in series with a capacitor >= 0.1uF capacitor to ground)", 69 INT/~{EXT} (in) "Internal/External Reference Select; 0 = External, 1 = Internal. Weak pull-up to supply.", 71 ADCLK (in) "Data Converter Clock Input", 76 ~{CS} (in) "Chip Select; 0 = Select, 1 = No Select", 77 SDATA (in) "Serial Data input", 78 SCLK (in) "Serial Data Clock"
part B pins: 1 AVDD (power) "Analog Power Supply", 4 AVSS (power) "Analog Ground", 7 AVDD (power) "Analog Power Supply", 8 AVSS (power) "Analog Ground", 11 AVSS (power) "Analog Ground", 14 AVDD (power) "Analog Power Supply", 15 LVSS (power) "LVDS Ground", 17 LVSS (power) "LVDS Ground", 18 LVSS (power) "LVDS Ground", 25 LVDD (power) "LVDS Power Supply", 26 LVSS (power) "LVDS Ground", 35 LVDD (power) "LVDS Power Supply", 36 LVSS (power) "LVDS Ground", 43 LVSS (power) "LVDS Ground", 44 LVSS (power) "LVDS Ground", 46 LVSS (power) "LVDS Ground", 47 AVDD (power) "Analog Power Supply", 50 AVSS (power) "Analog Ground", 53 AVSS (power) "Analog Ground", 54 AVDD (power) "Analog Power Supply", 57 AVSS (power) "Analog Ground", 60 AVDD (power) "Analog Power Supply", 61 AVSS (power) "Analog Ground", 62 AVSS (power) "Analog Ground", 63 AVDD (power) "Analog Power Supply", 68 AVSS (power) "Analog Ground", 70 AVDD (power) "Analog Power Supply", 72 AVSS (power) "Analog Ground", 73 AVSS (power) "Analog Ground", 74 AVSS (power) "Analog Ground", 75 AVDD (power) "Analog Power Supply", 79 AVSS (power) "Analog Ground", 80 AVSS (power) "Analog Ground", 81 EP

## ADS5270IPFPT
designator U?
8-Channel ADC, -40 to 85 degC, 80-pin QFP (PFP80), Green (RoHS & no Sb/Br); Manufacturer: Texas Instruments; PartNumber: ADS5270IPFPT; # Input Channels: 8; Analog Voltage AV/DD(Max)(V): 3.6; Analog Voltage AV/DD(Min)(V): 3; Architecture: Pipeline; ENOB(Bits): 11.3; INL(Max)(+/-LSB): 2; Interface: Parallel LVDS; Resolution(Bits): 12; Sample Rate (max)(SPS): 40M; SFDR(dB): 89; SINAD(dB): 70; SNR(dB): 70.5; SubFamily: High Speed ADC (>10MSPS); DatasheetVersion: SBAS293F; PackageVersion: 4146925/C, 07/2011; PackageReference: PFP80-5445X5445TP; PackageDescription: 80-Pin PowerPAD(TM) Plastic Quad Flatpack, Body 12 x 12 mm, Pitch 0.5 mm; Supplier 1: Digi-Key; Supplier Part Number 1: THS1207IDAG4-ND; Supplier 2: Mouser; Supplier Part Number 2: 595-THS1207IDAG4; Digital Supply(Max)(V): 3.6; Digital Supply(Min)(V): 3; Eco-Plan: Green (RoHS & no Sb/Br); Mounting Technology: Surface Mount; Code_JEDEC: MS-026; ComponentLink1Description: Manufacturer URL; ComponentLink1URL: http://www.ti.com/; ComponentLink2Description: Datasheet; ComponentLink2URL: http://www.ti.com/general/docs/lit/getliterature.tsp?genericPartNumber=ADS5270&fileType=pdf; ComponentLink3Description: Package Specification; ComponentLink3URL: http://www.ti.com/litv/pdf/mpqf049b
footprint TI-PFP80-5445X5445TP_N (QFP, 80-Leads, Body 12x12mm, Pitch 0.5mm, Thermal Pad 6.2x6.2mm, IPC Medium Density)
footprint TI-PFP80-5445X5445TP_L (QFP, 80-Leads, Body 12x12mm, Pitch 0.5mm, Thermal Pad 6.2x6.2mm, IPC High Density)
footprint TI-PFP80-5445X5445TP_M (QFP, 80-Leads, Body 12x12mm, Pitch 0.5mm, Thermal Pad 6.2x6.2mm, IPC Low Density)
part A pins: 2 IN1P (in) "Channel 1 Differential Analog Input High", 3 IN1N (in) "Channel 1 Differential Analog Input Low", 5 IN2P (in) "Channel 2 Differential Analog Input High", 6 IN2N (in) "Channel 2 Differential Analog Input Low", 9 IN3P (in) "Channel 3 Differential Analog Input High", 10 IN3N (in) "Channel 3 Differential Analog Input Low", 12 IN4P (in) "Channel 4 Differential Analog Input High", 13 IN4N (in) "Channel 4 Differential Analog Input Low", 16 PD (in) "Power-Down; 0 = Normal, 1 = Power-Down. Weak pull-down to ground.", 19 LCLKP (hiz) "Positive LVDS Clock", 20 LCLKN (hiz) "Negative LVDS Clock", 21 OUT1P (hiz) "Channel 1 Positive LVDS Data Output", 22 OUT1N (hiz) "Channel 1 Negative LVDS Data Output", 23 OUT2P (hiz) "Channel 2 Positive LVDS Data Output", 24 OUT2N (hiz) "Channel 2 Negative LVDS Data Output", 27 OUT3P (hiz) "Channel 3 Positive LVDS Data Output", 28 OUT3N (hiz) "Channel 3 Negative LVDS Data Output", 29 OUT4P (hiz) "Channel 4 Positive LVDS Data Output", 30 OUT4N (hiz) "Channel 4 Negative LVDS Data Output", 31 OUT5P (hiz) "Channel 5 Positive LVDS Data Output", 32 OUT5N (hiz) "Channel 5 Negative LVDS Data Output", 33 OUT6P (hiz) "Channel 6 Positive LVDS Data Output", 34 OUT6N (hiz) "Channel 6 Negative LVDS Data Output", 37 OUT7P (hiz) "Channel 7 Positive LVDS Data Output", 38 OUT7N (hiz) "Channel 7 Negative LVDS Data Output", 39 OUT8P (hiz) "Channel 8 Positive LVDS Data Output", 40 OUT8N (hiz) "Channel 8 Negative LVDS Data Output", 41 ADCLKP (hiz) "Positive LVDS ADC Clock Output", 42 ADCLKN (hiz) "Negative LVDS ADC Clock Output", 45 ~{RESET} (in) "Reset to Default; 0 = Reset, 1 = Normal. Weak pull-down to ground.", 48 IN5P (in) "Channel 5 Differential Analog Input High", 49 IN5N (in) "Channel 5 Differential Analog Input Low", 51 IN6P (in) "Channel 6 Differential Analog Input High", 52 IN6N (in) "Channel 6 Differential Analog Input Low", 55 IN7P (in) "Channel 7 Differential Analog Input High", 56 IN7N (in) "Channel 7 Differential Analog Input Low", 58 IN8P (in) "Channel 8 Differential Analog Input High", 59 IN8N (in) "Channel 8 Differential Analog Input Low", 64 ISET (in) "Bias Current Setting Resistor of 56.2kohm to Ground", 65 VCM (out) "Common-Mode Output Voltage", 66 REFB "Reference Bottom Voltage (2ohm resistor in series with a capacitor >= 0.1uF capacitor to ground)", 67 REFT "Reference Top Voltage (2ohm resistor in series with a capacitor >= 0.1uF capacitor to ground)", 69 INT/~{EXT} (in) "Internal/External Reference Select; 0 = External, 1 = Internal. Weak pull-up to supply.", 71 ADCLK (in) "Data Converter Clock Input", 76 ~{CS} (in) "Chip Select; 0 = Select, 1 = No Select", 77 SDATA (in) "Serial Data input", 78 SCLK (in) "Serial Data Clock"
part B pins: 1 AVDD (power) "Analog Power Supply", 4 AVSS (power) "Analog Ground", 7 AVDD (power) "Analog Power Supply", 8 AVSS (power) "Analog Ground", 11 AVSS (power) "Analog Ground", 14 AVDD (power) "Analog Power Supply", 15 LVSS (power) "LVDS Ground", 17 LVSS (power) "LVDS Ground", 18 LVSS (power) "LVDS Ground", 25 LVDD (power) "LVDS Power Supply", 26 LVSS (power) "LVDS Ground", 35 LVDD (power) "LVDS Power Supply", 36 LVSS (power) "LVDS Ground", 43 LVSS (power) "LVDS Ground", 44 LVSS (power) "LVDS Ground", 46 LVSS (power) "LVDS Ground", 47 AVDD (power) "Analog Power Supply", 50 AVSS (power) "Analog Ground", 53 AVSS (power) "Analog Ground", 54 AVDD (power) "Analog Power Supply", 57 AVSS (power) "Analog Ground", 60 AVDD (power) "Analog Power Supply", 61 AVSS (power) "Analog Ground", 62 AVSS (power) "Analog Ground", 63 AVDD (power) "Analog Power Supply", 68 AVSS (power) "Analog Ground", 70 AVDD (power) "Analog Power Supply", 72 AVSS (power) "Analog Ground", 73 AVSS (power) "Analog Ground", 74 AVSS (power) "Analog Ground", 75 AVDD (power) "Analog Power Supply", 79 AVSS (power) "Analog Ground", 80 AVSS (power) "Analog Ground", 81 EP

## ADS5270IPFPTG4
designator U?
8-Channel ADC, -40 to 85 degC, 80-pin QFP (PFP80), Green (RoHS & no Sb/Br); Manufacturer: Texas Instruments; PartNumber: ADS5270IPFPTG4; # Input Channels: 8; Analog Voltage AV/DD(Max)(V): 3.6; Analog Voltage AV/DD(Min)(V): 3; Architecture: Pipeline; ENOB(Bits): 11.3; INL(Max)(+/-LSB): 2; Interface: Parallel LVDS; Resolution(Bits): 12; Sample Rate (max)(SPS): 40M; SFDR(dB): 89; SINAD(dB): 70; SNR(dB): 70.5; SubFamily: High Speed ADC (>10MSPS); DatasheetVersion: SBAS293F; PackageVersion: 4146925/C, 07/2011; PackageReference: PFP80-5445X5445TP; PackageDescription: 80-Pin PowerPAD(TM) Plastic Quad Flatpack, Body 12 x 12 mm, Pitch 0.5 mm; Supplier 1: Digi-Key; Supplier Part Number 1: THS1007CDA-ND; Supplier 2: Newark; Supplier Part Number 2: 76C6129; Supplier 3: Mouser; Supplier Part Number 3: 595-THS1007CDA; Digital Supply(Max)(V): 3.6; Digital Supply(Min)(V): 3; Eco-Plan: Green (RoHS & no Sb/Br); Mounting Technology: Surface Mount; Code_JEDEC: MS-026; ComponentLink1Description: Manufacturer URL; ComponentLink1URL: http://www.ti.com/; ComponentLink2Description: Datasheet; ComponentLink2URL: http://www.ti.com/general/docs/lit/getliterature.tsp?genericPartNumber=ADS5270&fileType=pdf; ComponentLink3Description: Package Specification; ComponentLink3URL: http://www.ti.com/litv/pdf/mpqf049b
footprint TI-PFP80-5445X5445TP_N (QFP, 80-Leads, Body 12x12mm, Pitch 0.5mm, Thermal Pad 6.2x6.2mm, IPC Medium Density)
footprint TI-PFP80-5445X5445TP_L (QFP, 80-Leads, Body 12x12mm, Pitch 0.5mm, Thermal Pad 6.2x6.2mm, IPC High Density)
footprint TI-PFP80-5445X5445TP_M (QFP, 80-Leads, Body 12x12mm, Pitch 0.5mm, Thermal Pad 6.2x6.2mm, IPC Low Density)
part A pins: 2 IN1P (in) "Channel 1 Differential Analog Input High", 3 IN1N (in) "Channel 1 Differential Analog Input Low", 5 IN2P (in) "Channel 2 Differential Analog Input High", 6 IN2N (in) "Channel 2 Differential Analog Input Low", 9 IN3P (in) "Channel 3 Differential Analog Input High", 10 IN3N (in) "Channel 3 Differential Analog Input Low", 12 IN4P (in) "Channel 4 Differential Analog Input High", 13 IN4N (in) "Channel 4 Differential Analog Input Low", 16 PD (in) "Power-Down; 0 = Normal, 1 = Power-Down. Weak pull-down to ground.", 19 LCLKP (hiz) "Positive LVDS Clock", 20 LCLKN (hiz) "Negative LVDS Clock", 21 OUT1P (hiz) "Channel 1 Positive LVDS Data Output", 22 OUT1N (hiz) "Channel 1 Negative LVDS Data Output", 23 OUT2P (hiz) "Channel 2 Positive LVDS Data Output", 24 OUT2N (hiz) "Channel 2 Negative LVDS Data Output", 27 OUT3P (hiz) "Channel 3 Positive LVDS Data Output", 28 OUT3N (hiz) "Channel 3 Negative LVDS Data Output", 29 OUT4P (hiz) "Channel 4 Positive LVDS Data Output", 30 OUT4N (hiz) "Channel 4 Negative LVDS Data Output", 31 OUT5P (hiz) "Channel 5 Positive LVDS Data Output", 32 OUT5N (hiz) "Channel 5 Negative LVDS Data Output", 33 OUT6P (hiz) "Channel 6 Positive LVDS Data Output", 34 OUT6N (hiz) "Channel 6 Negative LVDS Data Output", 37 OUT7P (hiz) "Channel 7 Positive LVDS Data Output", 38 OUT7N (hiz) "Channel 7 Negative LVDS Data Output", 39 OUT8P (hiz) "Channel 8 Positive LVDS Data Output", 40 OUT8N (hiz) "Channel 8 Negative LVDS Data Output", 41 ADCLKP (hiz) "Positive LVDS ADC Clock Output", 42 ADCLKN (hiz) "Negative LVDS ADC Clock Output", 45 ~{RESET} (in) "Reset to Default; 0 = Reset, 1 = Normal. Weak pull-down to ground.", 48 IN5P (in) "Channel 5 Differential Analog Input High", 49 IN5N (in) "Channel 5 Differential Analog Input Low", 51 IN6P (in) "Channel 6 Differential Analog Input High", 52 IN6N (in) "Channel 6 Differential Analog Input Low", 55 IN7P (in) "Channel 7 Differential Analog Input High", 56 IN7N (in) "Channel 7 Differential Analog Input Low", 58 IN8P (in) "Channel 8 Differential Analog Input High", 59 IN8N (in) "Channel 8 Differential Analog Input Low", 64 ISET (in) "Bias Current Setting Resistor of 56.2kohm to Ground", 65 VCM (out) "Common-Mode Output Voltage", 66 REFB "Reference Bottom Voltage (2ohm resistor in series with a capacitor >= 0.1uF capacitor to ground)", 67 REFT "Reference Top Voltage (2ohm resistor in series with a capacitor >= 0.1uF capacitor to ground)", 69 INT/~{EXT} (in) "Internal/External Reference Select; 0 = External, 1 = Internal. Weak pull-up to supply.", 71 ADCLK (in) "Data Converter Clock Input", 76 ~{CS} (in) "Chip Select; 0 = Select, 1 = No Select", 77 SDATA (in) "Serial Data input", 78 SCLK (in) "Serial Data Clock"
part B pins: 1 AVDD (power) "Analog Power Supply", 4 AVSS (power) "Analog Ground", 7 AVDD (power) "Analog Power Supply", 8 AVSS (power) "Analog Ground", 11 AVSS (power) "Analog Ground", 14 AVDD (power) "Analog Power Supply", 15 LVSS (power) "LVDS Ground", 17 LVSS (power) "LVDS Ground", 18 LVSS (power) "LVDS Ground", 25 LVDD (power) "LVDS Power Supply", 26 LVSS (power) "LVDS Ground", 35 LVDD (power) "LVDS Power Supply", 36 LVSS (power) "LVDS Ground", 43 LVSS (power) "LVDS Ground", 44 LVSS (power) "LVDS Ground", 46 LVSS (power) "LVDS Ground", 47 AVDD (power) "Analog Power Supply", 50 AVSS (power) "Analog Ground", 53 AVSS (power) "Analog Ground", 54 AVDD (power) "Analog Power Supply", 57 AVSS (power) "Analog Ground", 60 AVDD (power) "Analog Power Supply", 61 AVSS (power) "Analog Ground", 62 AVSS (power) "Analog Ground", 63 AVDD (power) "Analog Power Supply", 68 AVSS (power) "Analog Ground", 70 AVDD (power) "Analog Power Supply", 72 AVSS (power) "Analog Ground", 73 AVSS (power) "Analog Ground", 74 AVSS (power) "Analog Ground", 75 AVDD (power) "Analog Power Supply", 79 AVSS (power) "Analog Ground", 80 AVSS (power) "Analog Ground", 81 EP

## ADS5271IPFP
designator U?
8-Channel, 12-Bit ADC with Serialized LVDS Interface, -40 to 85 degC, 80-pin QFP (PFP80), Green (RoHS & no Sb/Br); Manufacturer: Texas Instruments; PartNumber: ADS5271IPFP; # Input Channels: 8; Analog Voltage AV/DD(Max)(V): 3.6; Analog Voltage AV/DD(Min)(V): 3; Architecture: Pipeline; ENOB(Bits): 11.3; INL(Max)(+/-LSB): 2; Interface: Parallel LVDS; Resolution(Bits): 12; Sample Rate (max)(SPS): 50M; SFDR(dB): 87; SINAD(dB): 70; SNR(dB): 70.5; SubFamily: High Speed ADC (>10MSPS); DatasheetVersion: SBAS313C; PackageVersion: 4146925/C, 07/2011; PackageReference: PFP80-5445X5445TP; PackageDescription: 80-Pin PowerPAD(TM) Plastic Quad Flatpack, Body 12 x 12 mm, Pitch 0.5 mm; Supplier 1: Digi-Key; Supplier Part Number 1: THS1007CDAG4-ND; Supplier 2: Mouser; Supplier Part Number 2: 595-THS1007CDAG4; Digital Supply(Max)(V): 3.6; Digital Supply(Min)(V): 3; Eco-Plan: Green (RoHS & no Sb/Br); Mounting Technology: Surface Mount; Code_JEDEC: MS-026; ComponentLink1Description: Manufacturer URL; ComponentLink1URL: http://www.ti.com/; ComponentLink2Description: Datasheet; ComponentLink2URL: http://www.ti.com/general/docs/lit/getliterature.tsp?genericPartNumber=ADS5271&fileType=pdf; ComponentLink3Description: Package Specification; ComponentLink3URL: http://www.ti.com/litv/pdf/mpqf049b
footprint TI-PFP80-5445X5445TP_N (QFP, 80-Leads, Body 12x12mm, Pitch 0.5mm, Thermal Pad 6.2x6.2mm, IPC Medium Density)
footprint TI-PFP80-5445X5445TP_L (QFP, 80-Leads, Body 12x12mm, Pitch 0.5mm, Thermal Pad 6.2x6.2mm, IPC High Density)
footprint TI-PFP80-5445X5445TP_M (QFP, 80-Leads, Body 12x12mm, Pitch 0.5mm, Thermal Pad 6.2x6.2mm, IPC Low Density)
part A pins: 2 IN1P (in) "Channel 1 Differential Analog Input High", 3 IN1N (in) "Channel 1 Differential Analog Input Low", 5 IN2P (in) "Channel 2 Differential Analog Input High", 6 IN2N (in) "Channel 2 Differential Analog Input Low", 9 IN3P (in) "Channel 3 Differential Analog Input High", 10 IN3N (in) "Channel 3 Differential Analog Input Low", 12 IN4P (in) "Channel 4 Differential Analog Input High", 13 IN4N (in) "Channel 4 Differential Analog Input Low", 16 PD (in) "Power-Down; 0 = Normal, 1 = Power-Down. Weak pull-down to ground.", 19 LCLKP (hiz) "Positive LVDS Clock", 20 LCLKN (hiz) "Negative LVDS Clock", 21 OUT1P (hiz) "Channel 1 Positive LVDS Data Output", 22 OUT1N (hiz) "Channel 1 Negative LVDS Data Output", 23 OUT2P (hiz) "Channel 2 Positive LVDS Data Output", 24 OUT2N (hiz) "Channel 2 Negative LVDS Data Output", 27 OUT3P (hiz) "Channel 3 Positive LVDS Data Output", 28 OUT3N (hiz) "Channel 3 Negative LVDS Data Output", 29 OUT4P (hiz) "Channel 4 Positive LVDS Data Output", 30 OUT4N (hiz) "Channel 4 Negative LVDS Data Output", 31 OUT5P (hiz) "Channel 5 Positive LVDS Data Output", 32 OUT5N (hiz) "Channel 5 Negative LVDS Data Output", 33 OUT6P (hiz) "Channel 6 Positive LVDS Data Output", 34 OUT6N (hiz) "Channel 6 Negative LVDS Data Output", 37 OUT7P (hiz) "Channel 7 Positive LVDS Data Output", 38 OUT7N (hiz) "Channel 7 Negative LVDS Data Output", 39 OUT8P (hiz) "Channel 8 Positive LVDS Data Output", 40 OUT8N (hiz) "Channel 8 Negative LVDS Data Output", 41 ADCLKP (hiz) "Positive LVDS ADC Clock Output", 42 ADCLKN (hiz) "Negative LVDS ADC Clock Output", 45 ~{RESET} (in) "Reset to Default; 0 = Reset, 1 = Normal. Weak pull-down to ground.", 48 IN5P (in) "Channel 5 Differential Analog Input High", 49 IN5N (in) "Channel 5 Differential Analog Input Low", 51 IN6P (in) "Channel 6 Differential Analog Input High", 52 IN6N (in) "Channel 6 Differential Analog Input Low", 55 IN7P (in) "Channel 7 Differential Analog Input High", 56 IN7N (in) "Channel 7 Differential Analog Input Low", 58 IN8P (in) "Channel 8 Differential Analog Input High", 59 IN8N (in) "Channel 8 Differential Analog Input Low", 64 ISET (in) "Bias Current Setting Resistor of 56.2kohm to Ground", 65 VCM (out) "Common-Mode Output Voltage", 66 REFB "Reference Bottom Voltage (2ohm resistor in series with a capacitor >= 0.1uF capacitor to ground)", 67 REFT "Reference Top Voltage (2ohm resistor in series with a capacitor >= 0.1uF capacitor to ground)", 69 INT/~{EXT} (in) "Internal/External Reference Select; 0 = External, 1 = Internal. Weak pull-up to supply.", 71 ADCLK (in) "Data Converter Clock Input", 76 ~{CS} (in) "Chip Select; 0 = Select, 1 = No Select", 77 SDATA (in) "Serial Data input", 78 SCLK (in) "Serial Data Clock"
part B pins: 1 AVDD (power) "Analog Power Supply", 4 AVSS (power) "Analog Ground", 7 AVDD (power) "Analog Power Supply", 8 AVSS (power) "Analog Ground", 11 AVSS (power) "Analog Ground", 14 AVDD (power) "Analog Power Supply", 15 LVSS (power) "LVDS Ground", 17 LVSS (power) "LVDS Ground", 18 LVSS (power) "LVDS Ground", 25 LVDD (power) "LVDS Power Supply", 26 LVSS (power) "LVDS Ground", 35 LVDD (power) "LVDS Power Supply", 36 LVSS (power) "LVDS Ground", 43 LVSS (power) "LVDS Ground", 44 LVSS (power) "LVDS Ground", 46 LVSS (power) "LVDS Ground", 47 AVDD (power) "Analog Power Supply", 50 AVSS (power) "Analog Ground", 53 AVSS (power) "Analog Ground", 54 AVDD (power) "Analog Power Supply", 57 AVSS (power) "Analog Ground", 60 AVDD (power) "Analog Power Supply", 61 AVSS (power) "Analog Ground", 62 AVSS (power) "Analog Ground", 63 AVDD (power) "Analog Power Supply", 68 AVSS (power) "Analog Ground", 70 AVDD (power) "Analog Power Supply", 72 AVSS (power) "Analog Ground", 73 AVSS (power) "Analog Ground", 74 AVSS (power) "Analog Ground", 75 AVDD (power) "Analog Power Supply", 79 AVSS (power) "Analog Ground", 80 AVSS (power) "Analog Ground", 81 EP